# Altium footprint library MIC29152WU.PcbLib: 1 footprints
Each footprint in its own frame and in the unit in brackets; x right, y up, seen from the top. Pads: shape width x height; smd on the part's side, far side on the other; paste and mask are expansions set on the pad; w line width, h text height; cw(c..) or ccw(c..) is an arc to the next point about the centre after c.
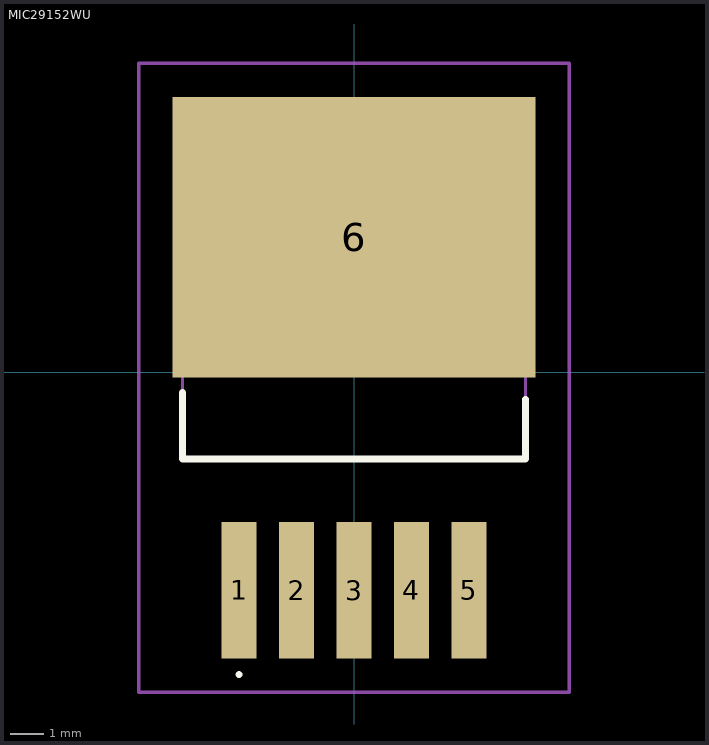
[diagram p0: the footprint, top view; thin cyan lines are the x and y axes]

## MIC29152WU [mm]
pads (6):
  rect 1.041x4.039 smd: 1(-3.404,-6.452) 2(-1.702,-6.452) 3(0,-6.452) 4(1.702,-6.452) 5(3.404,-6.452)
  rect 10.744x8.306 smd: 6(0,4.001)
Top Overlay:
  lines w0.1: -3.404,-9 -3.404,-9 ; -3.404,-9 ccw(c-3.404,-8.95) -3.404,-8.9 ; -3.404,-9 cw(c-3.404,-8.95) -3.404,-8.9 ; -3.404,-8.9 -3.404,-8.9
  lines w0.2: -5.08,-0.6 -5.08,-2.565 5.08,-2.565 5.08,-0.8
Mechanical 15:
  lines w0.1: -5.08,-2.565 5.08,-2.565 5.08,6.452 -5.08,6.452 -5.08,-2.565
Mechanical 20:
  lines w0.1: -6.372,-9.471 6.372,-9.471 6.372,9.153 -6.372,9.153 -6.372,-9.471